# Altium schematic symbol library Embedded_Modules.SchLib: 14 symbols
Pins are listed as number, name and electrical type; pins without a type are passive.

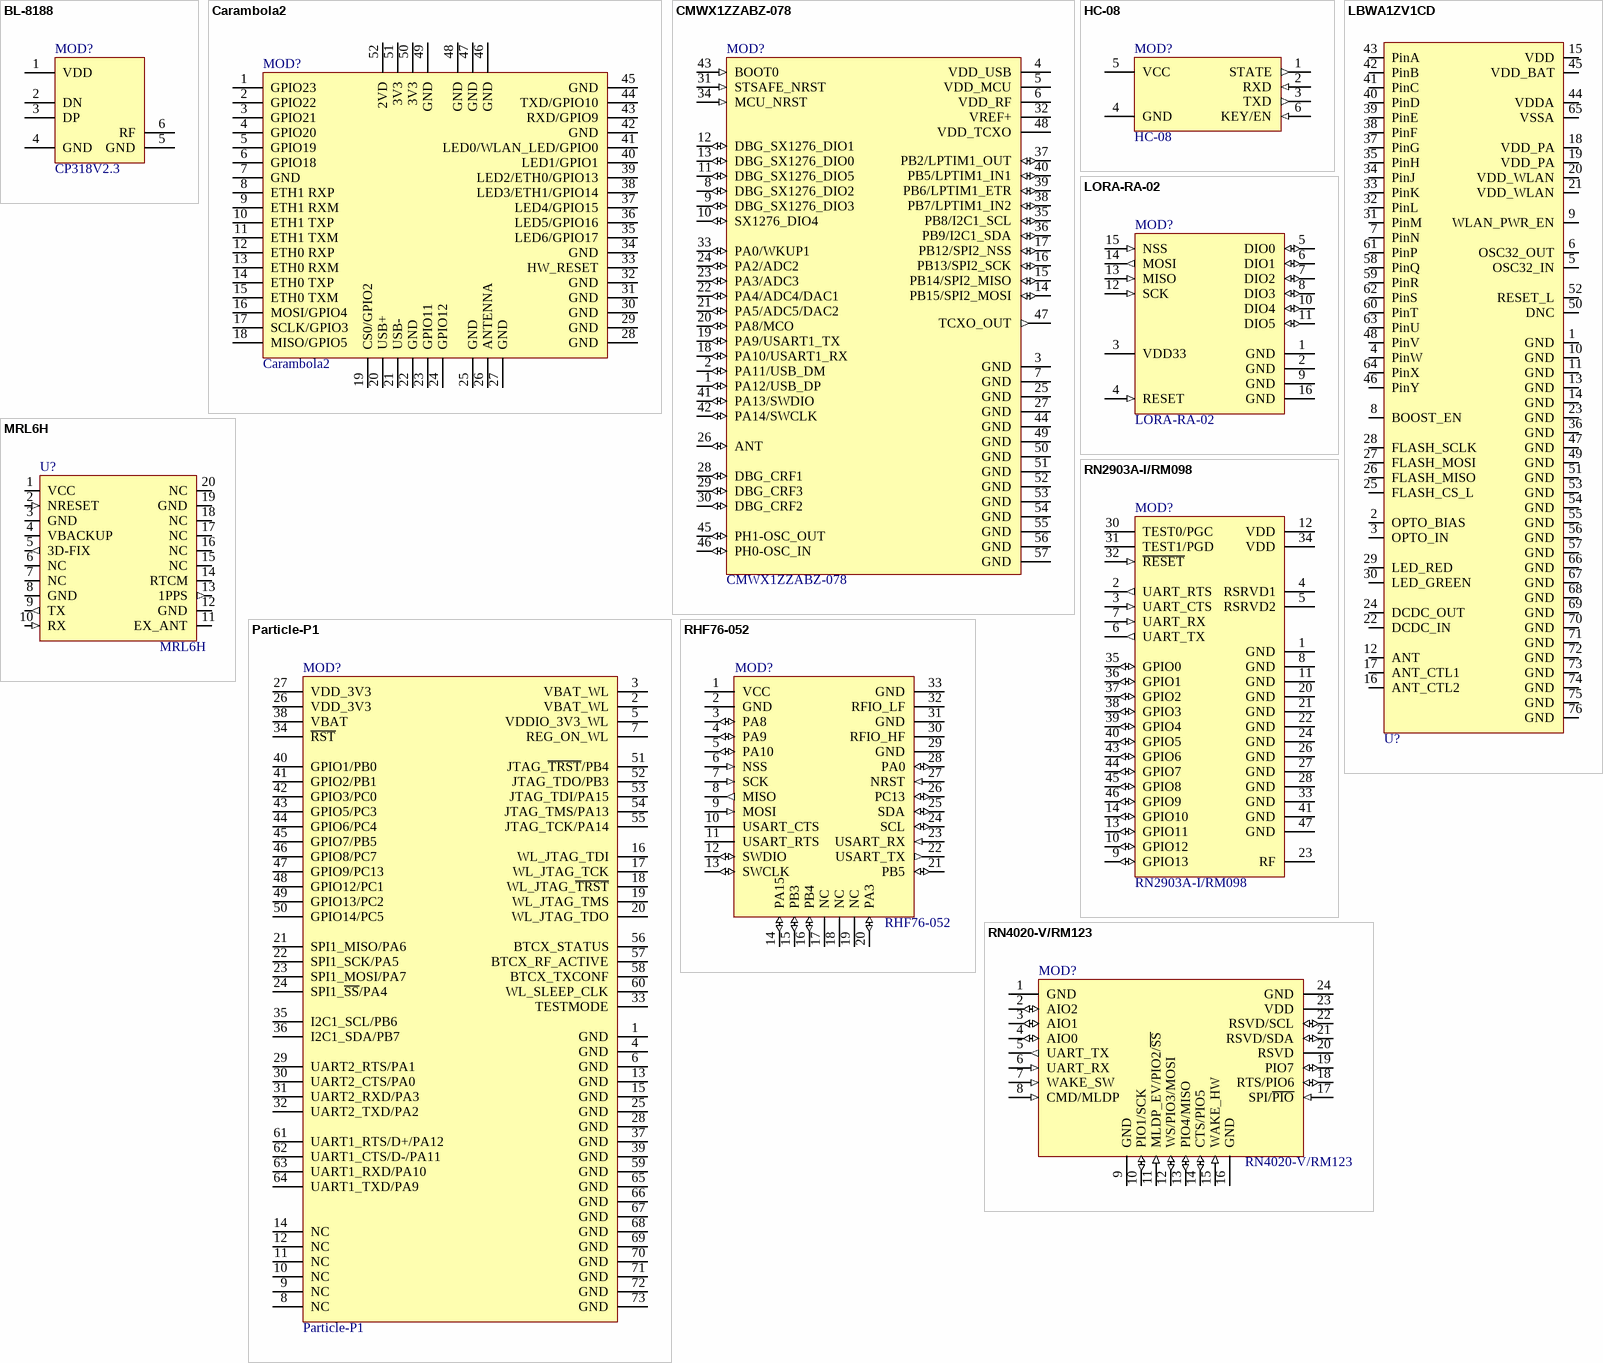
[diagram p0: symbols BL-8188 to RN4020-V/RM123]

## BL-8188
designator MOD?, comment CP318V2.3
IEEE 802.11 b/g/n WLAN USB Module; Populated: Yes; Value: CP318V2.3; Manuf1: *; Manuf1PartNumber: *; ClassName: *; RoHS: Yes
footprint RTL8188_MODULE
pins: 1 VDD, 2 DN, 3 DP, 4 GND, 5 GND, 6 RF

## Carambola2
designator MOD?
Qualcomm/Atheros AR9331 SoC, single sided, Wi-Fi enabled Linux module; Value: Carambola2
footprint 8DEV_0301_0002_28X38_FP
pins: 1 GPIO23, 2 GPIO22, 3 GPIO21, 4 GPIO20, 5 GPIO19, 6 GPIO18, 7 GND, 8 ETH1 RXP, 9 ETH1 RXM, 10 ETH1 TXP, 11 ETH1 TXM, 12 ETH0 RXP, 13 ETH0 RXM, 14 ETH0 TXP, 15 ETH0 TXM, 16 MOSI/GPIO4, 17 SCLK/GPIO3, 18 MISO/GPIO5, 19 CS0/GPIO2, 20 USB+, 21 USB-, 22 GND, 23 GPIO11, 24 GPIO12, 25 GND, 26 ANTENNA, 27 GND, 28 GND, 29 GND, 30 GND, 31 GND, 32 GND, 33 HW_RESET, 34 GND, 35 LED6/GPIO17, 36 LED5/GPIO16, 37 LED4/GPIO15, 38 LED3/ETH1/GPIO14, 39 LED2/ETH0/GPIO13, 40 LED1/GPIO1, 41 LED0/WLAN_LED/GPIO0, 42 GND, 43 RXD/GPIO9, 44 TXD/GPIO10, 45 GND, 46 GND, 47 GND, 48 GND, 49 GND, 50 3V3, 51 3V3, 52 2VD

## CMWX1ZZABZ-078
designator MOD?
LoRa Wireless Module T/R; Manufacturer: Murata; Current - Receiving: 23mA; Current - Transmitting: 106mA; Interface: I2C,SPI,USB,UART; Frequency: 915MHz; Sensitivity: -133dBm; Supplier 1: Digi-Key; Manufacturer Part Number: CMWX1ZZABZ-078; RoHS: No; Category: RF Receivers, Transceivers; Pricing 1: 1=15,75000, 10=14,25000, 25=13,12520, 100=12,00000, 250=11,25000, 500=10,50000 (USD); Mount: Surface Mount; Case/Package: Module; Min Operating Temperature: -40°C; Max Operating Temperature: 85°C; Packaging: Cut Tape; ComponentLink1URL: https://wireless.murata.com/RFM/data/type_abz.pdf?src-supplier=Digi-Key; ComponentLink1Description: https://wireless.murata.com/RFM/data/type_abz.pdf?src-supplier=Digi-Key; Value: CMWX1ZZABZ-078; Supplier Part Number 1: 490-16143-1-ND
footprint *XCVR_CMWX1ZZABZ-078
pins: 1 PA12/USB_DP (io), 2 PA11/USB_DM (io), 3 GND (power), 4 VDD_USB (power), 5 VDD_MCU (power), 6 VDD_RF (power), 7 GND (power), 8 DBG_SX1276_DIO2 (io), 9 DBG_SX1276_DIO3 (io), 10 SX1276_DIO4 (io), 11 DBG_SX1276_DIO5 (io), 12 DBG_SX1276_DIO1 (io), 13 DBG_SX1276_DIO0 (io), 14 PB15/SPI2_MOSI (io), 15 PB14/SPI2_MISO (io), 16 PB13/SPI2_SCK (io), 17 PB12/SPI2_NSS (io), 18 PA10/USART1_RX (io), 19 PA9/USART1_TX (io), 20 PA8/MCO (io), 21 PA5/ADC5/DAC2 (io), 22 PA4/ADC4/DAC1 (io), 23 PA3/ADC3 (io), 24 PA2/ADC2 (io), 25 GND (power), 26 ANT (io), 27 GND (power), 28 DBG_CRF1 (io), 29 DBG_CRF3 (io), 30 DBG_CRF2 (io), 31 STSAFE_NRST (in), 32 VREF+ (power), 33 PA0/WKUP1 (io), 34 MCU_NRST (in), 35 PB8/I2C1_SCL (io), 36 PB9/I2C1_SDA (io), 37 PB2/LPTIM1_OUT (io), 38 PB7/LPTIM1_IN2 (io), 39 PB6/LPTIM1_ETR (io), 40 PB5/LPTIM1_IN1 (io), 41 PA13/SWDIO (io), 42 PA14/SWCLK (io), 43 BOOT0 (in), 44 GND (power), 45 PH1-OSC_OUT (io), 46 PH0-OSC_IN (io), 47 TCXO_OUT (out), 48 VDD_TCXO (power), 49 GND (power), 50 GND (power), 51 GND (power), 52 GND (power), 53 GND (power), 54 GND (power), 55 GND (power), 56 GND (power), 57 GND (power)

## HC-08
designator MOD?
LORA-02 433MHz, ESP8266.; Value: HC-08; Supplier 1: Didacticas I+D; Supplier Part Number 1: SH-HC-08
footprint HC-Series
pins: 1 STATE (out), 2 RXD (in), 3 TXD (out), 4 GND, 5 VCC, 6 KEY/EN (in)

## LBWA1ZV1CD
designator U?  (value not drawn)
Module, Joey, STM32F405 + BCM43362, LGA76; Part Number: MOD00014; Manuf1: Murata; Populated: Yes; Supplier 1: Digi-Key; Supplier Part Number 1: IMP003-1-ND; Manuf1Partnumber: LBWA1ZV1CD; Value: LBWA1ZV1CD
footprint LBWA1ZV1CD
pins: 1 GND, 2 OPTO_BIAS, 3 OPTO_IN, 4 PinW, 5 OSC32_IN, 6 OSC32_OUT, 7 PinN, 8 BOOST_EN, 9 WLAN_PWR_EN, 10 GND, 11 GND, 12 ANT, 13 GND, 14 GND, 15 VDD, 16 ANT_CTL2, 17 ANT_CTL1, 18 VDD_PA, 19 VDD_PA, 20 VDD_WLAN, 21 VDD_WLAN, 22 DCDC_IN, 23 GND, 24 DCDC_OUT, 25 FLASH_CS_L, 26 FLASH_MISO, 27 FLASH_MOSI, 28 FLASH_SCLK, 29 LED_RED, 30 LED_GREEN, 31 PinM, 32 PinL, 33 PinK, 34 PinJ, 35 PinH, 36 GND, 37 PinG, 38 PinF, 39 PinE, 40 PinD, 41 PinC, 42 PinB, 43 PinA, 44 VDDA, 45 VDD_BAT, 46 PinY, 47 GND, 48 PinV, 49 GND, 50 DNC, 51 GND, 52 RESET_L, 53 GND, 54 GND, 55 GND, 56 GND, 57 GND, 58 PinQ, 59 PinR, 60 PinT, 61 PinP, 62 PinS, 63 PinU, 64 PinX, 65 VSSA, 66 GND, 67 GND, 68 GND, 69 GND, 70 GND, 71 GND, 72 GND, 73 GND, 74 GND, 75 GND, 76 GND

## LORA-RA-02
designator MOD?
LORA-02 433MHz, ESP8266.; Value: LORA-RA-02; Supplier 1: Didacticas I+D; Supplier Part Number 1: LORA02
footprint RA-02
pins: 1 GND, 2 GND, 3 VDD33, 4 RESET (in), 5 DIO0 (io), 6 DIO1 (io), 7 DIO2 (io), 8 DIO3 (io), 9 GND, 10 DIO4 (io), 11 DIO5 (io), 12 SCK (in), 13 MISO (in), 14 MOSI (out), 15 NSS (in), 16 GND

## MRL6H
designator U?
GTOP GPS Module; Populated: Yes; Value: MRL6H; ClassName: *; ROHS: Yes; Manuf1: GTOP; Manuf1Partnumber: MRL6H; HelpURL: *; Code_JEDEC: *
footprint MRL6H
pins: 1 VCC (power), 2 NRESET (in), 3 GND, 4 VBACKUP (power), 5 3D-FIX (out), 6 NC, 7 NC, 8 GND, 9 TX (out), 10 RX (in), 11 EX_ANT (io), 12 GND, 13 1PPS (out), 14 RTCM, 15 NC, 16 NC, 17 NC, 18 NC, 19 GND, 20 NC

## Particle-P1
designator MOD?
Particle WiFi Module with Antenna; Value: Particle-P1
footprint WM-N-BM-14
pins: 1 GND, 2 VBAT_WL, 3 VBAT_WL, 4 GND, 5 VDDIO_3V3_WL, 6 GND, 7 REG_ON_WL, 8 NC, 9 NC, 10 NC, 11 NC, 12 NC, 13 GND, 14 NC, 15 GND, 16 WL_JTAG_TDI, 17 WL_JTAG_TCK, 18 WL_JTAG_~{TRST}, 19 WL_JTAG_TMS, 20 WL_JTAG_TDO, 21 SPI1_MISO/PA6, 22 SPI1_SCK/PA5, 23 SPI1_MOSI/PA7, 24 SPI1_~{SS}/PA4, 25 GND, 26 VDD_3V3, 27 VDD_3V3, 28 GND, 29 UART2_RTS/PA1, 30 UART2_CTS/PA0, 31 UART2_RXD/PA3, 32 UART2_TXD/PA2, 33 TESTMODE, 34 ~{RST}, 35 I2C1_SCL/PB6, 36 I2C1_SDA/PB7, 37 GND, 38 VBAT, 39 GND, 40 GPIO1/PB0, 41 GPIO2/PB1, 42 GPIO3/PC0, 43 GPIO5/PC3, 44 GPIO6/PC4, 45 GPIO7/PB5, 46 GPIO8/PC7, 47 GPIO9/PC13, 48 GPIO12/PC1, 49 GPIO13/PC2, 50 GPIO14/PC5, 51 JTAG_~{TRST}/PB4, 52 JTAG_TDO/PB3, 53 JTAG_TDI/PA15, 54 JTAG_TMS/PA13, 55 JTAG_TCK/PA14, 56 BTCX_STATUS, 57 BTCX_RF_ACTIVE, 58 BTCX_TXCONF, 59 GND, 60 WL_SLEEP_CLK, 61 UART1_RTS/D+/PA12, 62 UART1_CTS/D-/PA11, 63 UART1_RXD/PA10, 64 UART1_TXD/PA9, 65 GND, 66 GND, 67 GND, 68 GND, 69 GND, 70 GND, 71 GND, 72 GND, 73 GND

## RHF76-052
designator MOD?
LoRaWAN Module; Value: RHF76-052; Supplier 1: Aliexpress; Supplier Part Number 1: https://es.aliexpress.com/item/4000040135800.html
footprint RHF76-052
pins: 1 VCC, 2 GND, 3 PA8 (io), 4 PA9 (io), 5 PA10 (io), 6 NSS (in), 7 SCK (in), 8 MISO (out), 9 MOSI (in), 10 USART_CTS, 11 USART_RTS, 12 SWDIO (io), 13 SWCLK (io), 14 PA15 (io), 15 PB3 (io), 16 PB4 (io), 17 NC, 18 NC, 19 NC, 20 PA3 (io), 21 PB5 (io), 22 USART_TX (out), 23 USART_RX (in), 24 SCL (io), 25 SDA (io), 26 PC13 (io), 27 NRST (in), 28 PA0 (io), 29 GND, 30 RFIO_HF, 31 GND, 32 RFIO_LF, 33 GND

## RN2903A-I/RM098
designator MOD?
RF MODULE; Manufacturer: Microchip Technology; RF Family/Standard: General ISM < 1GHz; Protocol: LoRa™; Modulation: FSK, GFSK; Frequency: 902MHz ~ 928MHz; Data Rate: 300kbps; Power - Output: 18.5dBm; Sensitivity: -146dBm; Serial Interfaces: UART; Antenna Type: Not Included, Castellation; Voltage - Supply: 2.1 V ~ 3.6 V; Current - Receiving: 1.8mA ~ 3.1mA; Current - Transmitting: 42.6mA ~ 124.4mA; Supplier 1: Digi-Key; Manufacturer Part Number: RN2903A-I/RM098; RoHS: RoHS Compliant; Category: RF/IF and RFID; Stock 1: 1156; Pricing 1: 1=13.18, 25=12.0512 (USD); Packaging: Tray; Part Status: Active; Memory Size: -; Mounting Type: Surface Mount; Operating Temperature: -40°C ~ 85°C; Package / Case: Module; ComponentLink1URL: http://www.microchip.com/mymicrochip/filehandler.aspx?ddocname=en578921; ComponentLink1Description: http://www.microchip.com/mymicrochip/filehandler.aspx?ddocname=en578921; Supplier Part Number 1: RN2903A-I/RM098-ND; Value: RN2903A-I/RM098
footprint XCVR_RN2903-I/RM095
pins: 1 GND (power), 2 UART_RTS (out), 3 UART_CTS (in), 4 RSRVD1, 5 RSRVD2, 6 UART_TX (out), 7 UART_RX (in), 8 GND (power), 9 GPIO13 (io), 10 GPIO12 (io), 11 GND (power), 12 VDD (power), 13 GPIO11 (io), 14 GPIO10 (io), 20 GND (power), 21 GND (power), 22 GND (power), 23 RF, 24 GND (power), 26 GND (power), 27 GND (power), 28 GND (power), 30 TEST0/PGC, 31 TEST1/PGD, 32 ~{RESET} (in), 33 GND (power), 34 VDD (power), 35 GPIO0 (io), 36 GPIO1 (io), 37 GPIO2 (io), 38 GPIO3 (io), 39 GPIO4 (io), 40 GPIO5 (io), 41 GND (power), 43 GPIO6 (io), 44 GPIO7 (io), 45 GPIO8 (io), 46 GPIO9 (io), 47 GND (power)

## RN4020-V/RM123
designator MOD?
RF TXRX MOD BLUETOOTH TRACE ANT; Manufacturer: Microchip Technology; Protocol: Bluetooth v4.1; Modulation: GFSK; Frequency: 2.4GHz; Data Rate: 1Mbps; Power - Output: 7.5dBm; Sensitivity: -92.5dBm; Serial Interfaces: AIO, PIO, SPI, UART; Antenna Type: Integrated, Trace; Memory Size: 64kB Flash; Voltage - Supply: 1.8 V ~ 3.6 V; Current - Receiving: 16mA; Supplier 1: Digi-Key; Supplier Part Number 1: RN4020-V/RM123-ND; Manufacturer Part Number: RN4020-V/RM123; RoHS: RoHS Compliant; Category: RF/IF and RFID; Stock 1: 11633; Pricing 1: 1=9.36, 25=8.4908, 100=8.056 (USD); Packaging: Tray; Part Status: Active; RF Family/Standard: Bluetooth; Utilized IC / Part: -; Current - Transmitting: 16mA; Mounting Type: Surface Mount; Operating Temperature: -30°C ~ 85°C; Package / Case: Module; ComponentLink1URL: http://www.microchip.com/mymicrochip/filehandler.aspx?ddocname=en570043; ComponentLink1Description: http://www.microchip.com/mymicrochip/filehandler.aspx?ddocname=en570043; Value: RN4020-V/RM123
footprint RN4020 MODULE-24
pins: 1 GND, 2 AIO2 (io), 3 AIO1 (io), 4 AIO0 (io), 5 UART_TX (out), 6 UART_RX (in), 7 WAKE_SW (in), 8 CMD/MLDP (in), 9 GND, 10 PIO1/SCK (io), 11 MLDP_EV/PIO2/~{SS} (in), 12 WS/PIO3/MOSI (io), 13 PIO4/MISO (io), 14 CTS/PIO5 (io), 15 WAKE_HW (in), 16 GND, 17 SPI/~{PIO} (in), 18 RTS/PIO6 (io), 19 PIO7 (io), 20 RSVD, 21 RSVD/SDA (io), 22 RSVD/SCL (io), 23 VDD, 24 GND

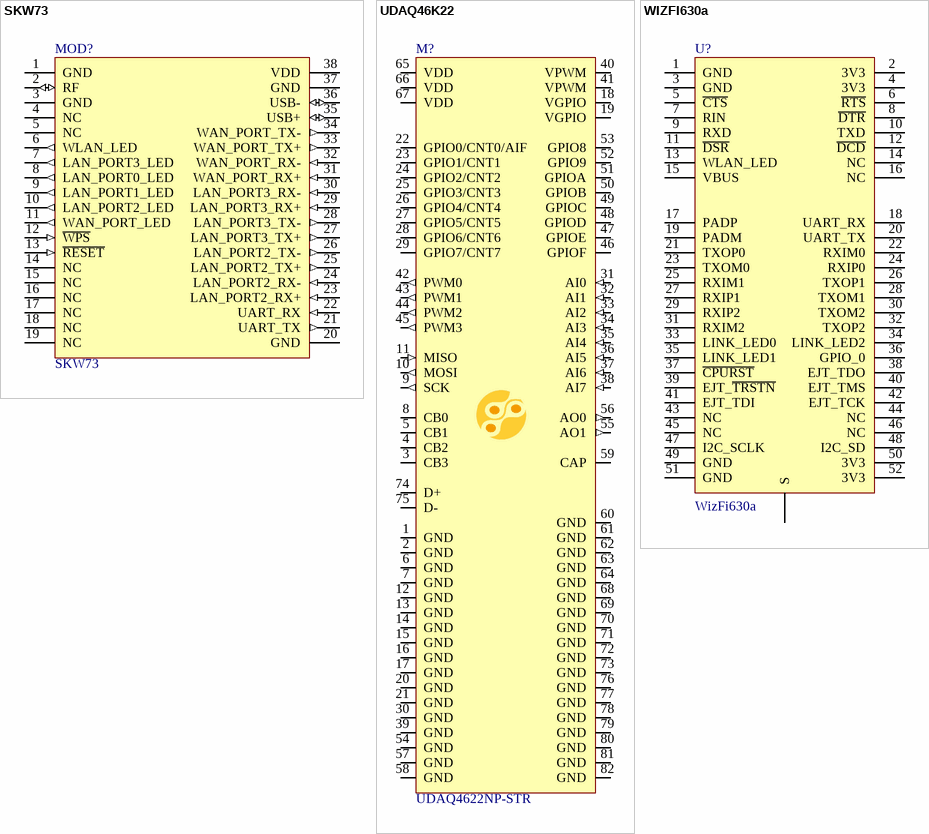
[diagram p1: symbols SKW73 to WIZFI630a]

## SKW73
designator MOD?
802.11b/g/n WIFI MIMO Module; Manuf1: Skylab; Populated: Yes; Value: SKW73; HelpURL: http://www.skylab.com.cn/en/productview-64.html; Manuf1Partnumber: SKW73; Manufacturer: Skylab; Manufacturer Part Number: SKW73; Package / Case: LCC38; Supplier Part Number 1: SKW73
footprint LCC200P2750X4050X100-38N (LCC, 38-Pins, Body 27.50x40.50mmx1.00mm, Pitch 2.00mm, IPC Medium Density)
pins: 1 GND, 2 RF (io), 3 GND, 4 NC, 5 NC, 6 WLAN_LED (out), 7 LAN_PORT3_LED (out), 8 LAN_PORT0_LED (out), 9 LAN_PORT1_LED (out), 10 LAN_PORT2_LED (out), 11 WAN_PORT_LED (out), 12 ~{WPS} (in), 13 ~{RESET} (in), 14 NC, 15 NC, 16 NC, 17 NC, 18 NC, 19 NC, 20 GND, 21 UART_TX (out), 22 UART_RX (in), 23 LAN_PORT2_RX+ (in), 24 LAN_PORT2_RX- (in), 25 LAN_PORT2_TX+ (out), 26 LAN_PORT2_TX- (out), 27 LAN_PORT3_TX+ (out), 28 LAN_PORT3_TX- (out), 29 LAN_PORT3_RX+ (in), 30 LAN_PORT3_RX- (in), 31 WAN_PORT_RX+ (in), 32 WAN_PORT_RX- (in), 33 WAN_PORT_TX+ (out), 34 WAN_PORT_TX- (out), 35 USB+ (io), 36 USB- (io), 37 GND, 38 VDD

## UDAQ46K22
designator M?, comment UDAQ4622NP-STR
Multifunction Data Adquisition Module with PID Controller features; Manuf1: TeCrea Technology; Manuf1Partnumber: UDAQ1939; Populated: Yes; ReferencePackage: LCC; Value: UDAQ4622NP-STR; ClassName: *; ROHS: Yes; HelpURL: *; Code_JEDEC: *; PackageReference: LCC-82; LifeCycle: Checked; Supplier 1: Colcircuitos; Supplier Part Number 1: UDAQ4622NP-STR
footprint udaq-82LCC
pins: 1 GND, 2 GND, 3 CB3, 4 CB2, 5 CB1, 6 GND, 7 GND, 8 CB0, 9 SCK (out), 10 MOSI (out), 11 MISO (in), 12 GND, 13 GND, 14 GND, 15 GND, 16 GND, 17 GND, 18 VGPIO (power), 19 VGPIO (power), 20 GND, 21 GND, 22 GPIO0/CNT0/AIF (io), 23 GPIO1/CNT1 (io), 24 GPIO2/CNT2 (io), 25 GPIO3/CNT3 (io), 26 GPIO4/CNT4 (io), 27 GPIO5/CNT5 (io), 28 GPIO6/CNT6 (io), 29 GPIO7/CNT7 (io), 30 GND, 31 AI0 (in), 32 AI1 (in), 33 AI2 (in), 34 AI3 (in), 35 AI4 (in), 36 AI5 (in), 37 AI6 (in), 38 AI7 (in), 39 GND, 40 VPWM (power), 41 VPWM (power), 42 PWM0 (out), 43 PWM1 (out), 44 PWM2 (out), 45 PWM3 (out), 46 GPIOF (io), 47 GPIOE (io), 48 GPIOD (io), 49 GPIOC (io), 50 GPIOB (io), 51 GPIOA (io), 52 GPIO9 (io), 53 GPIO8 (io), 54 GND, 55 AO1 (out), 56 AO0 (out), 57 GND, 58 GND, 59 CAP, 60 GND, 61 GND, 62 GND, 63 GND, 64 GND, 65 VDD (power), 66 VDD (power), 67 VDD (power), 68 GND, 69 GND, 70 GND, 71 GND, 72 GND, 73 GND, 74 D+, 75 D-, 76 GND, 77 GND, 78 GND, 79 GND, 80 GND, 81 GND, 82 GND

## WIZFI630a
designator U?, comment WizFi630a
802.11b/g/n embedded WiFi module.; Manufacturer: WIZnet; Modulation: 16QAM, 64QAM, BPSK, CCK, DBPSK, DSSS, DQPSK, OFDM, QPSK; Frequency: 2.4GHz; Data Rate: 150Mbps; Power - Output: 17dBm; Sensitivity: -89dBm; Serial Interfaces: UART, USB; Antenna Type: Not Included, U.FL; Memory Size: 4MB Flash, 32MB SDRAM; Voltage - Supply: 3.3V; Manufacturer Part Number: WIZFI630a; RoHS: RoHS Compliant; Category: RF/IF and RFID; Stock 1: 0; Pricing 1: 100=0 (USD); Packaging: Bulk; Part Status: Obsolete; RF Family/Standard: WiFi; Protocol: 802.11b/g/n; Current - Receiving: -; Current - Transmitting: -; Mounting Type: Surface Mount; Operating Temperature: -10°C ~ 70°C; Package / Case: Module; ComponentLink1URL: http://media.digikey.com/pdf/Data%20Sheets/WIZnet%20PDFs/WizFi630_UM_v1.1.pdf; ComponentLink1Description: http://media.digikey.com/pdf/Data%20Sheets/WIZnet%20PDFs/WizFi630_UM_v1.1.pdf; Value: WizFi630a; Supplier Part Number 1: wizfi630a; Supplier 1: WIZNET
footprint wizfi630a
pins: 1 GND, 2 3V3, 3 GND, 4 3V3, 5 ~{CTS}, 6 ~{RTS}, 7 RIN, 8 ~{DTR}, 9 RXD, 10 TXD, 11 ~{DSR}, 12 ~{DCD}, 13 WLAN_LED, 14 NC, 15 VBUS, 16 NC, 17 PADP, 18 UART_RX, 19 PADM, 20 UART_TX, 21 TXOP0, 22 RXIM0, 23 TXOM0, 24 RXIP0, 25 RXIM1, 26 TXOP1, 27 RXIP1, 28 TXOM1, 29 RXIP2, 30 TXOM2, 31 RXIM2, 32 TXOP2, 33 LINK_LED0, 34 LINK_LED2, 35 LINK_LED1, 36 GPIO_0, 37 ~{CPURST}, 38 EJT_TDO, 39 EJT_~{TRSTN}, 40 EJT_TMS, 41 EJT_TDI, 42 EJT_TCK, 43 NC, 44 NC, 45 NC, 46 NC, 47 I2C_SCLK, 48 I2C_SD, 49 GND, 50 3V3, 51 GND, 52 3V3, S